# Altium footprint library adc-dac.PcbLib: 1 footprints
Each footprint in its own frame and in the unit in brackets; x right, y up, seen from the top. Pads: shape width x height; smd on the part's side, far side on the other; paste and mask are expansions set on the pad; w line width, h text height; cw(c..) or ccw(c..) is an arc to the next point about the centre after c.
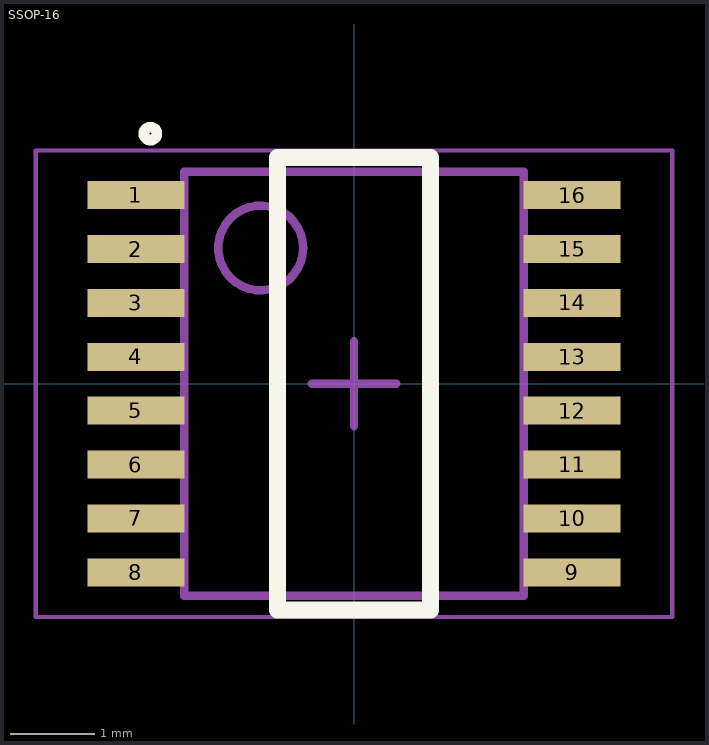
[diagram p0: the footprint, top view; thin cyan lines are the x and y axes]

## SSOP-16 [mil] "SOP, 16-Leads, Body 4.89x3.90mm, Pitch 0.64mm, IPC Medium Density"
height 68.11
pads (16):
  rect 45x13 smd: 1(-101.25,87.5) 2(-101.25,62.5) 3(-101.25,37.5) 4(-101.25,12.5) 5(-101.25,-12.5) 6(-101.25,-37.5) 7(-101.25,-62.5) 8(-101.25,-87.5) 9(101.25,-87.5) 10(101.25,-62.5) 11(101.25,-37.5) 12(101.25,-12.5) 13(101.25,12.5) 14(101.25,37.5) 15(101.25,62.5) 16(101.25,87.5)
Top Overlay:
  circle w5: c-94.49,116.04 r3
  lines w7.87: -35.43,-105 -35.43,105 35.43,105 35.43,-105 -35.43,-105
Mechanical 13:
  circle w3.94: c-43.31,62.99 r19.68
  lines w3.94: -78.74,-98.43 -78.74,98.43 78.74,98.43 78.74,-98.43 -78.74,-98.43
Mechanical 15:
  lines w1.97: -147.64,-108.27 -147.64,108.27 147.64,108.27 147.64,-108.27 -147.64,-108.27
  lines w3.94: -19.69,0 19.68,0 ; 0,-19.68 0,19.68
3D body: height 41.31, standoff -2, extent -118,-98 118,98